# EAGLE library part RADIO_8CH (library quadcopter_comp)
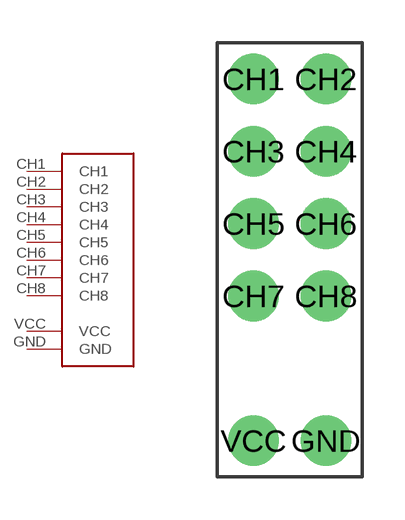
[diagram p9: symbol with the pads of RADIO_8CH; footprint RADIO_8CH]

Designator prefix -

## RADIO_8CH  [RADIO_8CH]
CH1  CH1
CH2  CH2
CH3  CH3
CH4  CH4
CH5  CH5
CH6  CH6
CH7  CH7
CH8  CH8
GND  GND
VCC  VCC

## Footprint RADIO_8CH (pad centres in mm)
drill 0.8 pad 1.778: CH1 -1.27,6.35; CH2 1.27,6.35; CH3 -1.27,3.81; CH4 1.27,3.81; CH5 -1.27,1.27; CH6 1.27,1.27; CH7 -1.27,-1.27; CH8 1.27,-1.27; GND 1.27,-6.35; VCC -1.27,-6.35